# Altium schematic symbol library Devzone_SCHLib.SchLib: 1101 symbols (part 6 of 11)
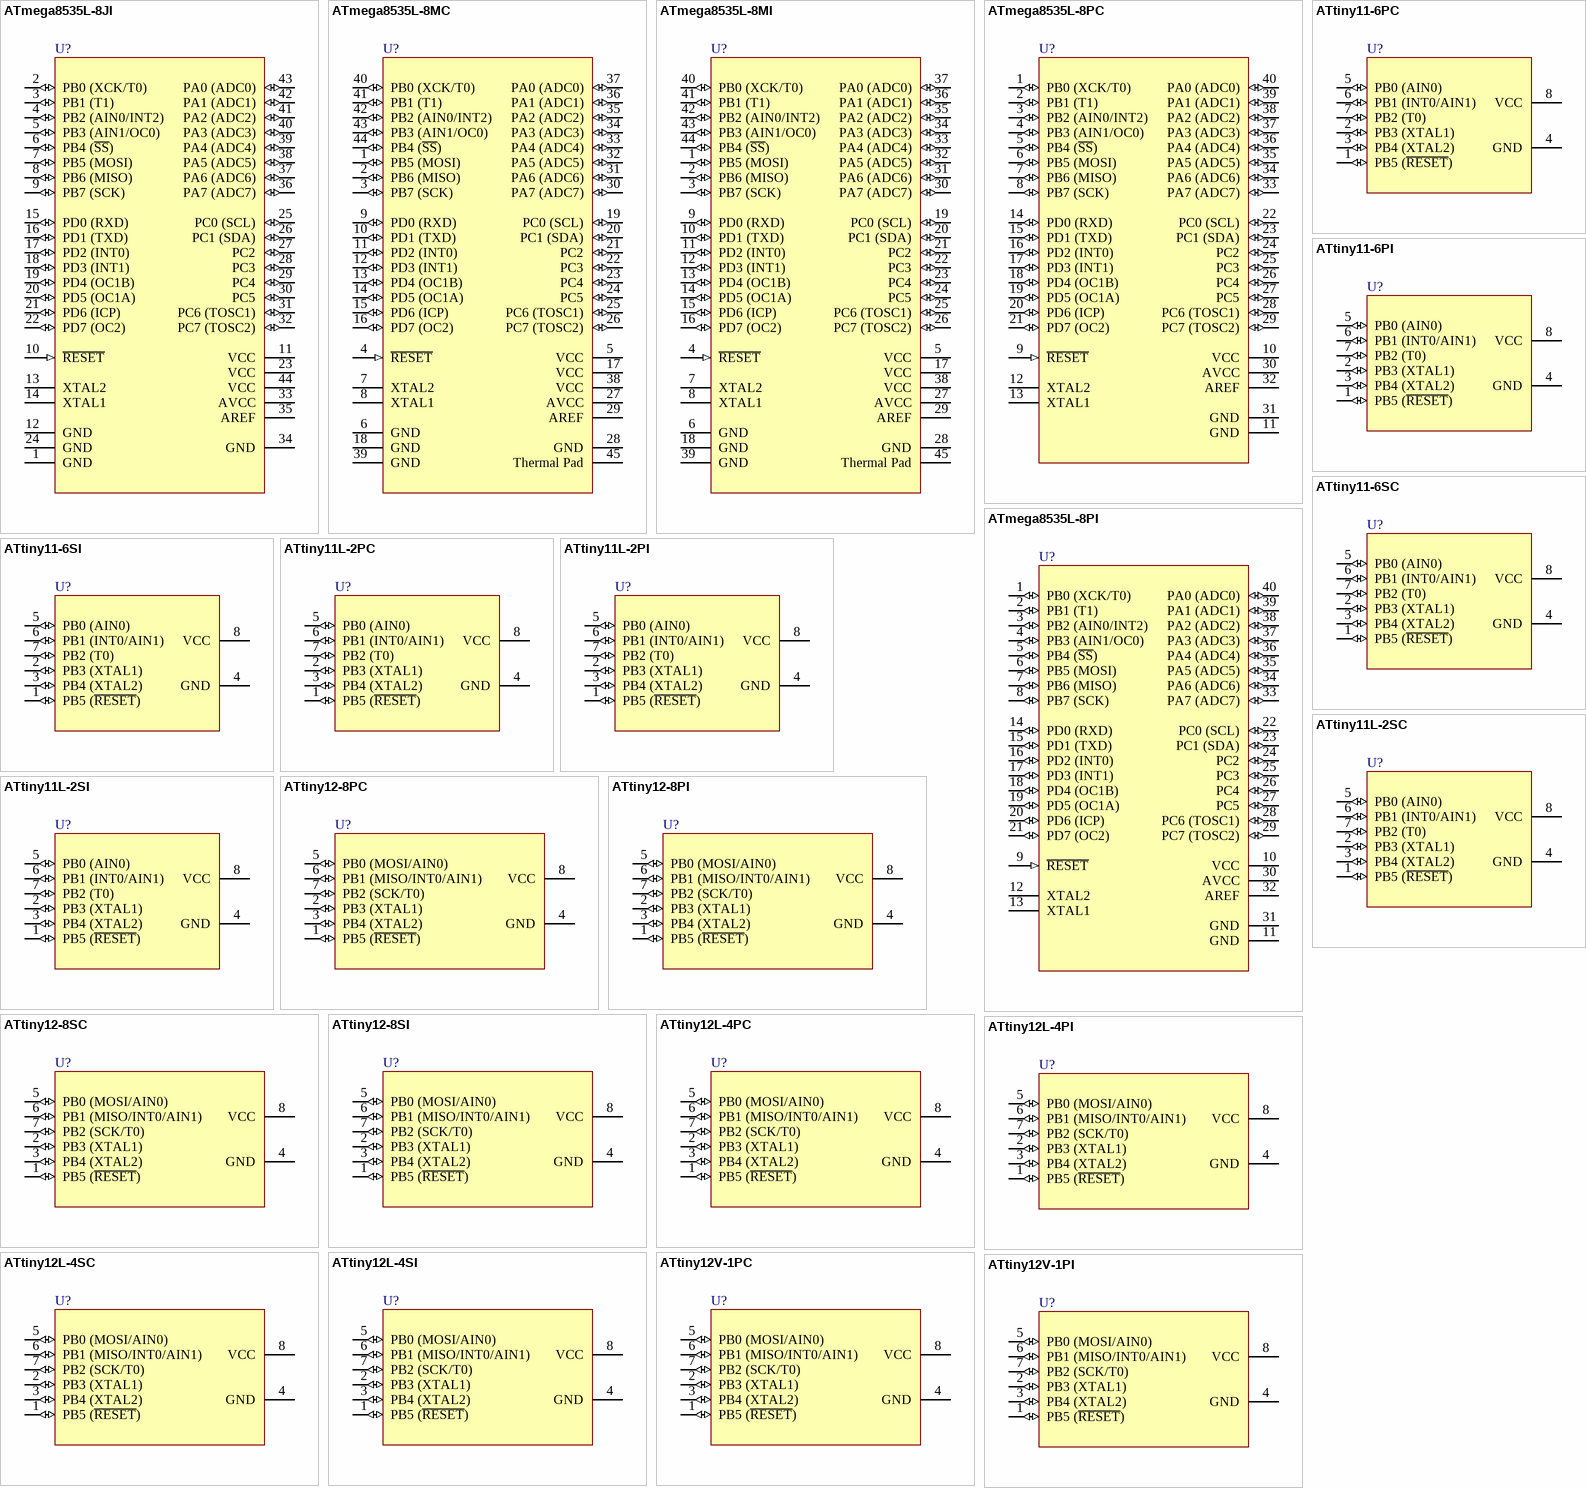
[diagram p51: symbols ATmega8535L-8JI to ATtiny12V-1PI]

## ATmega8535L-8JI
designator U?
8-Bit AVR Microcontroller with 8K Bytes of In-System Programmable Flash Memory; Published: 17-Sep-2003; LatestRevisionDate: 13-Apr-2006; LatestRevisionNote: IPC-7351 Footprint Added.; DatasheetVersion: 2502B-AVR-09/02; PackageVersion: rev.B, Oct-2001; PackageReference: 44J; Publisher: Altium Limited; PackageDescription: 44-Pin Leaded Chip Carrier 1.27 mm Pitch; Code_JEDEC: MS-018-AC; Code_IPC: PLCC-44; ComponentLink1Description: Manufacturer Link; ComponentLink1URL: http://www.atmel.com; ComponentLink2Description: Datasheet; ComponentLink2URL: http://www.atmel.com/dyn/resources/prod_documents/doc2502.pdf
footprint 44J_N (Leaded Chip Carrier, 44-Leads, Body 16.6x16.6mm, Pitch 1.27mm, IPC Medium Density)
footprint 44J_L (Leaded Chip Carrier, 44-Leads, Body 16.6x16.6mm, Pitch 1.27mm, IPC High Density)
footprint 44J_M (Leaded Chip Carrier, 44-Leads, Body 16.6x16.6mm, Pitch 1.27mm, IPC Low Density)
3D model ATMEGA8535L-44J (44-Pin Leaded Chip Carrier 1.27 mm Pitch)
pins: 1 GND (power), 2 PB0 (XCK/T0) (io), 3 PB1 (T1) (io), 4 PB2 (AIN0/INT2) (io), 5 PB3 (AIN1/OC0) (io), 6 PB4 (~{SS}) (io), 7 PB5 (MOSI) (io), 8 PB6 (MISO) (io), 9 PB7 (SCK) (io), 10 ~{RESET} (in), 11 VCC (power), 12 GND (power), 13 XTAL2, 14 XTAL1, 15 PD0 (RXD) (io), 16 PD1 (TXD) (io), 17 PD2 (INT0) (io), 18 PD3 (INT1) (io), 19 PD4 (OC1B) (io), 20 PD5 (OC1A) (io), 21 PD6 (ICP) (io), 22 PD7 (OC2) (io), 23 VCC (power), 24 GND (power), 25 PC0 (SCL) (io), 26 PC1 (SDA) (io), 27 PC2 (io), 28 PC3 (io), 29 PC4 (io), 30 PC5 (io), 31 PC6 (TOSC1) (io), 32 PC7 (TOSC2) (io), 33 AVCC (power), 34 GND (power), 35 AREF, 36 PA7 (ADC7) (io), 37 PA6 (ADC6) (io), 38 PA5 (ADC5) (io), 39 PA4 (ADC4) (io), 40 PA3 (ADC3) (io), 41 PA2 (ADC2) (io), 42 PA1 (ADC1) (io), 43 PA0 (ADC0) (io), 44 VCC (power)

## ATmega8535L-8MC
designator U?
8-Bit AVR Microcontroller with 8K Bytes of In-System Programmable Flash Memory; Published: 26-May-2004; LatestRevisionDate: 13-Apr-2006; LatestRevisionNote: IPC-7351 Footprint Added.; DatasheetVersion: 2502B-AVR-09/02; PackageVersion: revB, Aug-2001; PackageReference: 44M1; Publisher: Altium Limited; PackageDescription: 44-Pin Quad Flat No-Lead 0.5 mm Pitch; Code_JEDEC: MO-220-VKKD-1; ComponentLink1Description: Manufacturer Link; ComponentLink1URL: http://www.atmel.com; ComponentLink2Description: Datasheet; ComponentLink2URL: http://www.atmel.com/dyn/resources/prod_documents/doc2502.pdf
footprint 44M1_N (QFN, 44-Leads, Body 7x7mm, Pitch 0.5mm, IPC Medium Density)
footprint 44M1_L (QFN, 44-Leads, Body 7x7mm, Pitch 0.5mm, IPC High Density)
footprint 44M1_M (QFN, 44-Leads, Body 7x7mm, Pitch 0.5mm, IPC Low Density)
pins: 1 PB5 (MOSI) (io), 2 PB6 (MISO) (io), 3 PB7 (SCK) (io), 4 ~{RESET} (in), 5 VCC (power), 6 GND (power), 7 XTAL2, 8 XTAL1, 9 PD0 (RXD) (io), 10 PD1 (TXD) (io), 11 PD2 (INT0) (io), 12 PD3 (INT1) (io), 13 PD4 (OC1B) (io), 14 PD5 (OC1A) (io), 15 PD6 (ICP) (io), 16 PD7 (OC2) (io), 17 VCC (power), 18 GND (power), 19 PC0 (SCL) (io), 20 PC1 (SDA) (io), 21 PC2 (io), 22 PC3 (io), 23 PC4 (io), 24 PC5 (io), 25 PC6 (TOSC1) (io), 26 PC7 (TOSC2) (io), 27 AVCC (power), 28 GND (power), 29 AREF, 30 PA7 (ADC7) (io), 31 PA6 (ADC6) (io), 32 PA5 (ADC5) (io), 33 PA4 (ADC4) (io), 34 PA3 (ADC3) (io), 35 PA2 (ADC2) (io), 36 PA1 (ADC1) (io), 37 PA0 (ADC0) (io), 38 VCC (power), 39 GND (power), 40 PB0 (XCK/T0) (io), 41 PB1 (T1) (io), 42 PB2 (AIN0/INT2) (io), 43 PB3 (AIN1/OC0) (io), 44 PB4 (~{SS}) (io), 45 Thermal Pad (power)

## ATmega8535L-8MI
designator U?
8-Bit AVR Microcontroller with 8K Bytes of In-System Programmable Flash Memory; Published: 26-May-2004; LatestRevisionDate: 13-Apr-2006; LatestRevisionNote: IPC-7351 Footprint Added.; DatasheetVersion: 2502B-AVR-09/02; PackageVersion: revB, Aug-2001; PackageReference: 44M1; Publisher: Altium Limited; PackageDescription: 44-Pin Quad Flat No-Lead 0.5 mm Pitch; Code_JEDEC: MO-220-VKKD-1; ComponentLink1Description: Manufacturer Link; ComponentLink1URL: http://www.atmel.com; ComponentLink2Description: Datasheet; ComponentLink2URL: http://www.atmel.com/dyn/resources/prod_documents/doc2502.pdf
footprint 44M1_N (QFN, 44-Leads, Body 7x7mm, Pitch 0.5mm, IPC Medium Density)
footprint 44M1_L (QFN, 44-Leads, Body 7x7mm, Pitch 0.5mm, IPC High Density)
footprint 44M1_M (QFN, 44-Leads, Body 7x7mm, Pitch 0.5mm, IPC Low Density)
pins: 1 PB5 (MOSI) (io), 2 PB6 (MISO) (io), 3 PB7 (SCK) (io), 4 ~{RESET} (in), 5 VCC (power), 6 GND (power), 7 XTAL2, 8 XTAL1, 9 PD0 (RXD) (io), 10 PD1 (TXD) (io), 11 PD2 (INT0) (io), 12 PD3 (INT1) (io), 13 PD4 (OC1B) (io), 14 PD5 (OC1A) (io), 15 PD6 (ICP) (io), 16 PD7 (OC2) (io), 17 VCC (power), 18 GND (power), 19 PC0 (SCL) (io), 20 PC1 (SDA) (io), 21 PC2 (io), 22 PC3 (io), 23 PC4 (io), 24 PC5 (io), 25 PC6 (TOSC1) (io), 26 PC7 (TOSC2) (io), 27 AVCC (power), 28 GND (power), 29 AREF, 30 PA7 (ADC7) (io), 31 PA6 (ADC6) (io), 32 PA5 (ADC5) (io), 33 PA4 (ADC4) (io), 34 PA3 (ADC3) (io), 35 PA2 (ADC2) (io), 36 PA1 (ADC1) (io), 37 PA0 (ADC0) (io), 38 VCC (power), 39 GND (power), 40 PB0 (XCK/T0) (io), 41 PB1 (T1) (io), 42 PB2 (AIN0/INT2) (io), 43 PB3 (AIN1/OC0) (io), 44 PB4 (~{SS}) (io), 45 Thermal Pad (power)

## ATmega8535L-8PC
designator U?
8-Bit AVR Microcontroller with 8K Bytes of In-System Programmable Flash Memory; Published: 17-Sep-2003; LatestRevisionDate: 04-Mar-2005; LatestRevisionNote: Stylized 3D Model Added.; DatasheetVersion: 2502B-AVR-09/02; PackageVersion: Dec-1999; PackageReference: 40P6; Publisher: Altium Limited; PackageDescription: DIP; 40 Leads; Row Spacing 15.24 mm; Pitch 2.54 mm; ComponentLink1Description: Manufacturer Link; ComponentLink1URL: http://www.atmel.com; ComponentLink2Description: Datasheet; ComponentLink2URL: http://www.atmel.com/dyn/resources/prod_documents/doc2502.pdf
footprint 40P6 (DIP; 40 Leads; Row Spacing 15.24 mm; Pitch 2.54 mm)
3D model 40P6 (DIP; 40 Leads; Row Spacing 15.24 mm; Pitch 2.54 mm)
pins: 1 PB0 (XCK/T0) (io), 2 PB1 (T1) (io), 3 PB2 (AIN0/INT2) (io), 4 PB3 (AIN1/OC0) (io), 5 PB4 (~{SS}) (io), 6 PB5 (MOSI) (io), 7 PB6 (MISO) (io), 8 PB7 (SCK) (io), 9 ~{RESET} (in), 10 VCC (power), 11 GND (power), 12 XTAL2, 13 XTAL1, 14 PD0 (RXD) (io), 15 PD1 (TXD) (io), 16 PD2 (INT0) (io), 17 PD3 (INT1) (io), 18 PD4 (OC1B) (io), 19 PD5 (OC1A) (io), 20 PD6 (ICP) (io), 21 PD7 (OC2) (io), 22 PC0 (SCL) (io), 23 PC1 (SDA) (io), 24 PC2 (io), 25 PC3 (io), 26 PC4 (io), 27 PC5 (io), 28 PC6 (TOSC1) (io), 29 PC7 (TOSC2) (io), 30 AVCC (power), 31 GND (power), 32 AREF, 33 PA7 (ADC7) (io), 34 PA6 (ADC6) (io), 35 PA5 (ADC5) (io), 36 PA4 (ADC4) (io), 37 PA3 (ADC3) (io), 38 PA2 (ADC2) (io), 39 PA1 (ADC1) (io), 40 PA0 (ADC0) (io)

## ATmega8535L-8PI
designator U?
8-Bit AVR Microcontroller with 8K Bytes of In-System Programmable Flash Memory; Published: 17-Sep-2003; LatestRevisionDate: 04-Mar-2005; LatestRevisionNote: Stylized 3D Model Added.; DatasheetVersion: 2502B-AVR-09/02; PackageVersion: Dec-1999; PackageReference: 40P6; Publisher: Altium Limited; PackageDescription: DIP; 40 Leads; Row Spacing 15.24 mm; Pitch 2.54 mm; ComponentLink1Description: Manufacturer Link; ComponentLink1URL: http://www.atmel.com; ComponentLink2Description: Datasheet; ComponentLink2URL: http://www.atmel.com/dyn/resources/prod_documents/doc2502.pdf
footprint 40P6 (DIP; 40 Leads; Row Spacing 15.24 mm; Pitch 2.54 mm)
3D model 40P6 (DIP; 40 Leads; Row Spacing 15.24 mm; Pitch 2.54 mm)
pins: 1 PB0 (XCK/T0) (io), 2 PB1 (T1) (io), 3 PB2 (AIN0/INT2) (io), 4 PB3 (AIN1/OC0) (io), 5 PB4 (~{SS}) (io), 6 PB5 (MOSI) (io), 7 PB6 (MISO) (io), 8 PB7 (SCK) (io), 9 ~{RESET} (in), 10 VCC (power), 11 GND (power), 12 XTAL2, 13 XTAL1, 14 PD0 (RXD) (io), 15 PD1 (TXD) (io), 16 PD2 (INT0) (io), 17 PD3 (INT1) (io), 18 PD4 (OC1B) (io), 19 PD5 (OC1A) (io), 20 PD6 (ICP) (io), 21 PD7 (OC2) (io), 22 PC0 (SCL) (io), 23 PC1 (SDA) (io), 24 PC2 (io), 25 PC3 (io), 26 PC4 (io), 27 PC5 (io), 28 PC6 (TOSC1) (io), 29 PC7 (TOSC2) (io), 30 AVCC (power), 31 GND (power), 32 AREF, 33 PA7 (ADC7) (io), 34 PA6 (ADC6) (io), 35 PA5 (ADC5) (io), 36 PA4 (ADC4) (io), 37 PA3 (ADC3) (io), 38 PA2 (ADC2) (io), 39 PA1 (ADC1) (io), 40 PA0 (ADC0) (io)

## ATtiny11-6PC
designator U?
8-Bit AVR Microcontroller with 1K Byte of Flash Memory; Published: 17-Sep-2003; LatestRevisionDate: 04-Mar-2005; LatestRevisionNote: Stylized 3D Model Added.; DatasheetVersion: 1006C-09/01; PackageVersion: revB, Sep-2001; PackageReference: 8P3; Publisher: Altium Limited; PackageDescription: DIP; 8 Leads; Row Spacing 7.62 mm; Pitch 2.54 mm; ComponentLink1Description: Manufacturer Link; ComponentLink1URL: http://www.atmel.com; ComponentLink2Description: Datasheet; ComponentLink2URL: http://www.atmel.com/dyn/resources/prod_documents/doc1006.pdf
footprint 8P3 (DIP; 8 Leads; Row Spacing 7.62 mm; Pitch 2.54 mm)
3D model 8P3 (DIP; 8 Leads; Row Spacing 7.62 mm; Pitch 2.54 mm)
pins: 1 PB5 (~{RESET}) (io), 2 PB3 (XTAL1) (io), 3 PB4 (XTAL2) (io), 4 GND (power), 5 PB0 (AIN0) (io), 6 PB1 (INT0/AIN1) (io), 7 PB2 (T0) (io), 8 VCC (power)

## ATtiny11-6PI
designator U?
8-Bit AVR Microcontroller with 1K Byte of Flash Memory; Published: 17-Sep-2003; LatestRevisionDate: 04-Mar-2005; LatestRevisionNote: Stylized 3D Model Added.; DatasheetVersion: 1006C-09/01; PackageVersion: revB, Sep-2001; PackageReference: 8P3; Publisher: Altium Limited; PackageDescription: DIP; 8 Leads; Row Spacing 7.62 mm; Pitch 2.54 mm; ComponentLink1Description: Manufacturer Link; ComponentLink1URL: http://www.atmel.com; ComponentLink2Description: Datasheet; ComponentLink2URL: http://www.atmel.com/dyn/resources/prod_documents/doc1006.pdf
footprint 8P3 (DIP; 8 Leads; Row Spacing 7.62 mm; Pitch 2.54 mm)
3D model 8P3 (DIP; 8 Leads; Row Spacing 7.62 mm; Pitch 2.54 mm)
pins: 1 PB5 (~{RESET}) (io), 2 PB3 (XTAL1) (io), 3 PB4 (XTAL2) (io), 4 GND (power), 5 PB0 (AIN0) (io), 6 PB1 (INT0/AIN1) (io), 7 PB2 (T0) (io), 8 VCC (power)

## ATtiny11-6SC
designator U?
8-Bit AVR Microcontroller with 1K Byte of Flash Memory; Published: 17-Sep-2003; LatestRevisionDate: 13-Apr-2006; LatestRevisionNote: IPC-7351 Footprint Added.; DatasheetVersion: 1006C-09/01; PackageVersion: revB, May-2002; PackageReference: 8S2; Publisher: Altium Limited; PackageDescription: 8-Pin Small Outline Package 1.27 mm Pitch; ComponentLink1Description: Manufacturer Link; ComponentLink1URL: http://www.atmel.com; ComponentLink2Description: Datasheet; ComponentLink2URL: http://www.atmel.com/dyn/resources/prod_documents/doc1006.pdf
footprint 8S2_N (SOP, 8-Leads, Body 5.3x5.3mm, Pitch 1.27mm, IPC Medium Density)
footprint 8S2_L (SOP, 8-Leads, Body 5.3x5.3mm, Pitch 1.27mm, IPC High Density)
footprint 8S2_M (SOP, 8-Leads, Body 5.3x5.3mm, Pitch 1.27mm, IPC Low Density)
3D model 8S2 (8-Pin Small Outline Package 1.27 mm Pitch)
pins: 1 PB5 (~{RESET}) (io), 2 PB3 (XTAL1) (io), 3 PB4 (XTAL2) (io), 4 GND (power), 5 PB0 (AIN0) (io), 6 PB1 (INT0/AIN1) (io), 7 PB2 (T0) (io), 8 VCC (power)

## ATtiny11-6SI
designator U?
8-Bit AVR Microcontroller with 1K Byte of Flash Memory; Published: 17-Sep-2003; LatestRevisionDate: 13-Apr-2006; LatestRevisionNote: IPC-7351 Footprint Added.; DatasheetVersion: 1006C-09/01; PackageVersion: revB, May-2002; PackageReference: 8S2; Publisher: Altium Limited; PackageDescription: 8-Pin Small Outline Package 1.27 mm Pitch; ComponentLink1Description: Manufacturer Link; ComponentLink1URL: http://www.atmel.com; ComponentLink2Description: Datasheet; ComponentLink2URL: http://www.atmel.com/dyn/resources/prod_documents/doc1006.pdf
footprint 8S2_N (SOP, 8-Leads, Body 5.3x5.3mm, Pitch 1.27mm, IPC Medium Density)
footprint 8S2_L (SOP, 8-Leads, Body 5.3x5.3mm, Pitch 1.27mm, IPC High Density)
footprint 8S2_M (SOP, 8-Leads, Body 5.3x5.3mm, Pitch 1.27mm, IPC Low Density)
3D model 8S2 (8-Pin Small Outline Package 1.27 mm Pitch)
pins: 1 PB5 (~{RESET}) (io), 2 PB3 (XTAL1) (io), 3 PB4 (XTAL2) (io), 4 GND (power), 5 PB0 (AIN0) (io), 6 PB1 (INT0/AIN1) (io), 7 PB2 (T0) (io), 8 VCC (power)

## ATtiny11L-2PC
designator U?
8-Bit AVR Microcontroller with 1K Byte of Flash Memory; Published: 17-Sep-2003; LatestRevisionDate: 04-Mar-2005; LatestRevisionNote: Stylized 3D Model Added.; DatasheetVersion: 1006C-09/01; PackageVersion: revB, Sep-2001; PackageReference: 8P3; Publisher: Altium Limited; PackageDescription: DIP; 8 Leads; Row Spacing 7.62 mm; Pitch 2.54 mm; ComponentLink1Description: Manufacturer Link; ComponentLink1URL: http://www.atmel.com; ComponentLink2Description: Datasheet; ComponentLink2URL: http://www.atmel.com/dyn/resources/prod_documents/doc1006.pdf
footprint 8P3 (DIP; 8 Leads; Row Spacing 7.62 mm; Pitch 2.54 mm)
3D model 8P3 (DIP; 8 Leads; Row Spacing 7.62 mm; Pitch 2.54 mm)
pins: 1 PB5 (~{RESET}) (io), 2 PB3 (XTAL1) (io), 3 PB4 (XTAL2) (io), 4 GND (power), 5 PB0 (AIN0) (io), 6 PB1 (INT0/AIN1) (io), 7 PB2 (T0) (io), 8 VCC (power)

## ATtiny11L-2PI
designator U?
8-Bit AVR Microcontroller with 1K Byte of Flash Memory; Published: 17-Sep-2003; LatestRevisionDate: 04-Mar-2005; LatestRevisionNote: Stylized 3D Model Added.; DatasheetVersion: 1006C-09/01; PackageVersion: revB, Sep-2001; PackageReference: 8P3; Publisher: Altium Limited; PackageDescription: DIP; 8 Leads; Row Spacing 7.62 mm; Pitch 2.54 mm; ComponentLink1Description: Manufacturer Link; ComponentLink1URL: http://www.atmel.com; ComponentLink2Description: Datasheet; ComponentLink2URL: http://www.atmel.com/dyn/resources/prod_documents/doc1006.pdf
footprint 8P3 (DIP; 8 Leads; Row Spacing 7.62 mm; Pitch 2.54 mm)
3D model 8P3 (DIP; 8 Leads; Row Spacing 7.62 mm; Pitch 2.54 mm)
pins: 1 PB5 (~{RESET}) (io), 2 PB3 (XTAL1) (io), 3 PB4 (XTAL2) (io), 4 GND (power), 5 PB0 (AIN0) (io), 6 PB1 (INT0/AIN1) (io), 7 PB2 (T0) (io), 8 VCC (power)

## ATtiny11L-2SC
designator U?
8-Bit AVR Microcontroller with 1K Byte of Flash Memory; Published: 17-Sep-2003; LatestRevisionDate: 13-Apr-2006; LatestRevisionNote: IPC-7351 Footprint Added.; DatasheetVersion: 1006C-09/01; PackageVersion: revB, May-2002; PackageReference: 8S2; Publisher: Altium Limited; PackageDescription: 8-Pin Small Outline Package 1.27 mm Pitch; ComponentLink1Description: Manufacturer Link; ComponentLink1URL: http://www.atmel.com; ComponentLink2Description: Datasheet; ComponentLink2URL: http://www.atmel.com/dyn/resources/prod_documents/doc1006.pdf
footprint 8S2_N (SOP, 8-Leads, Body 5.3x5.3mm, Pitch 1.27mm, IPC Medium Density)
footprint 8S2_L (SOP, 8-Leads, Body 5.3x5.3mm, Pitch 1.27mm, IPC High Density)
footprint 8S2_M (SOP, 8-Leads, Body 5.3x5.3mm, Pitch 1.27mm, IPC Low Density)
3D model 8S2 (8-Pin Small Outline Package 1.27 mm Pitch)
pins: 1 PB5 (~{RESET}) (io), 2 PB3 (XTAL1) (io), 3 PB4 (XTAL2) (io), 4 GND (power), 5 PB0 (AIN0) (io), 6 PB1 (INT0/AIN1) (io), 7 PB2 (T0) (io), 8 VCC (power)

## ATtiny11L-2SI
designator U?
8-Bit AVR Microcontroller with 1K Byte of Flash Memory; Published: 17-Sep-2003; LatestRevisionDate: 13-Apr-2006; LatestRevisionNote: IPC-7351 Footprint Added.; DatasheetVersion: 1006C-09/01; PackageVersion: revB, May-2002; PackageReference: 8S2; Publisher: Altium Limited; PackageDescription: 8-Pin Small Outline Package 1.27 mm Pitch; ComponentLink1Description: Manufacturer Link; ComponentLink1URL: http://www.atmel.com; ComponentLink2Description: Datasheet; ComponentLink2URL: http://www.atmel.com/dyn/resources/prod_documents/doc1006.pdf
footprint 8S2_N (SOP, 8-Leads, Body 5.3x5.3mm, Pitch 1.27mm, IPC Medium Density)
footprint 8S2_L (SOP, 8-Leads, Body 5.3x5.3mm, Pitch 1.27mm, IPC High Density)
footprint 8S2_M (SOP, 8-Leads, Body 5.3x5.3mm, Pitch 1.27mm, IPC Low Density)
3D model 8S2 (8-Pin Small Outline Package 1.27 mm Pitch)
pins: 1 PB5 (~{RESET}) (io), 2 PB3 (XTAL1) (io), 3 PB4 (XTAL2) (io), 4 GND (power), 5 PB0 (AIN0) (io), 6 PB1 (INT0/AIN1) (io), 7 PB2 (T0) (io), 8 VCC (power)

## ATtiny12-8PC
designator U?
8-Bit AVR Microcontroller with 1K Byte of Flash Memory; Published: 17-Sep-2003; LatestRevisionDate: 04-Mar-2005; LatestRevisionNote: Stylized 3D Model Added.; DatasheetVersion: 1006C-09/01; PackageVersion: revB, Sep-2001; PackageReference: 8P3; Publisher: Altium Limited; PackageDescription: DIP; 8 Leads; Row Spacing 7.62 mm; Pitch 2.54 mm; ComponentLink1Description: Manufacturer Link; ComponentLink1URL: http://www.atmel.com; ComponentLink2Description: Datasheet; ComponentLink2URL: http://www.atmel.com/dyn/resources/prod_documents/doc1006.pdf
footprint 8P3 (DIP; 8 Leads; Row Spacing 7.62 mm; Pitch 2.54 mm)
3D model 8P3 (DIP; 8 Leads; Row Spacing 7.62 mm; Pitch 2.54 mm)
pins: 1 PB5 (~{RESET}) (io), 2 PB3 (XTAL1) (io), 3 PB4 (XTAL2) (io), 4 GND (power), 5 PB0 (MOSI/AIN0) (io), 6 PB1 (MISO/INT0/AIN1) (io), 7 PB2 (SCK/T0) (io), 8 VCC (power)

## ATtiny12-8PI
designator U?
8-Bit AVR Microcontroller with 1K Byte of Flash Memory; Published: 17-Sep-2003; LatestRevisionDate: 04-Mar-2005; LatestRevisionNote: Stylized 3D Model Added.; DatasheetVersion: 1006C-09/01; PackageVersion: revB, Sep-2001; PackageReference: 8P3; Publisher: Altium Limited; PackageDescription: DIP; 8 Leads; Row Spacing 7.62 mm; Pitch 2.54 mm; ComponentLink1Description: Manufacturer Link; ComponentLink1URL: http://www.atmel.com; ComponentLink2Description: Datasheet; ComponentLink2URL: http://www.atmel.com/dyn/resources/prod_documents/doc1006.pdf
footprint 8P3 (DIP; 8 Leads; Row Spacing 7.62 mm; Pitch 2.54 mm)
3D model 8P3 (DIP; 8 Leads; Row Spacing 7.62 mm; Pitch 2.54 mm)
pins: 1 PB5 (~{RESET}) (io), 2 PB3 (XTAL1) (io), 3 PB4 (XTAL2) (io), 4 GND (power), 5 PB0 (MOSI/AIN0) (io), 6 PB1 (MISO/INT0/AIN1) (io), 7 PB2 (SCK/T0) (io), 8 VCC (power)

## ATtiny12-8SC
designator U?
8-Bit AVR Microcontroller with 1K Byte of Flash Memory; Published: 17-Sep-2003; LatestRevisionDate: 13-Apr-2006; LatestRevisionNote: IPC-7351 Footprint Added.; DatasheetVersion: 1006C-09/01; PackageVersion: revB, May-2002; PackageReference: 8S2; Publisher: Altium Limited; PackageDescription: 8-Pin Small Outline Package 1.27 mm Pitch; ComponentLink1Description: Manufacturer Link; ComponentLink1URL: http://www.atmel.com; ComponentLink2Description: Datasheet; ComponentLink2URL: http://www.atmel.com/dyn/resources/prod_documents/doc1006.pdf
footprint 8S2_N (SOP, 8-Leads, Body 5.3x5.3mm, Pitch 1.27mm, IPC Medium Density)
footprint 8S2_L (SOP, 8-Leads, Body 5.3x5.3mm, Pitch 1.27mm, IPC High Density)
footprint 8S2_M (SOP, 8-Leads, Body 5.3x5.3mm, Pitch 1.27mm, IPC Low Density)
3D model 8S2 (8-Pin Small Outline Package 1.27 mm Pitch)
pins: 1 PB5 (~{RESET}) (io), 2 PB3 (XTAL1) (io), 3 PB4 (XTAL2) (io), 4 GND (power), 5 PB0 (MOSI/AIN0) (io), 6 PB1 (MISO/INT0/AIN1) (io), 7 PB2 (SCK/T0) (io), 8 VCC (power)

## ATtiny12-8SI
designator U?
8-Bit AVR Microcontroller with 1K Byte of Flash Memory; Published: 17-Sep-2003; LatestRevisionDate: 13-Apr-2006; LatestRevisionNote: IPC-7351 Footprint Added.; DatasheetVersion: 1006C-09/01; PackageVersion: revB, May-2002; PackageReference: 8S2; Publisher: Altium Limited; PackageDescription: 8-Pin Small Outline Package 1.27 mm Pitch; ComponentLink1Description: Manufacturer Link; ComponentLink1URL: http://www.atmel.com; ComponentLink2Description: Datasheet; ComponentLink2URL: http://www.atmel.com/dyn/resources/prod_documents/doc1006.pdf
footprint 8S2_N (SOP, 8-Leads, Body 5.3x5.3mm, Pitch 1.27mm, IPC Medium Density)
footprint 8S2_L (SOP, 8-Leads, Body 5.3x5.3mm, Pitch 1.27mm, IPC High Density)
footprint 8S2_M (SOP, 8-Leads, Body 5.3x5.3mm, Pitch 1.27mm, IPC Low Density)
3D model 8S2 (8-Pin Small Outline Package 1.27 mm Pitch)
pins: 1 PB5 (~{RESET}) (io), 2 PB3 (XTAL1) (io), 3 PB4 (XTAL2) (io), 4 GND (power), 5 PB0 (MOSI/AIN0) (io), 6 PB1 (MISO/INT0/AIN1) (io), 7 PB2 (SCK/T0) (io), 8 VCC (power)

## ATtiny12L-4PC
designator U?
8-Bit AVR Microcontroller with 1K Byte of Flash Memory; Published: 17-Sep-2003; LatestRevisionDate: 04-Mar-2005; LatestRevisionNote: Stylized 3D Model Added.; DatasheetVersion: 1006C-09/01; PackageVersion: revB, Sep-2001; PackageReference: 8P3; Publisher: Altium Limited; PackageDescription: DIP; 8 Leads; Row Spacing 7.62 mm; Pitch 2.54 mm; ComponentLink1Description: Manufacturer Link; ComponentLink1URL: http://www.atmel.com; ComponentLink2Description: Datasheet; ComponentLink2URL: http://www.atmel.com/dyn/resources/prod_documents/doc1006.pdf
footprint 8P3 (DIP; 8 Leads; Row Spacing 7.62 mm; Pitch 2.54 mm)
3D model 8P3 (DIP; 8 Leads; Row Spacing 7.62 mm; Pitch 2.54 mm)
pins: 1 PB5 (~{RESET}) (io), 2 PB3 (XTAL1) (io), 3 PB4 (XTAL2) (io), 4 GND (power), 5 PB0 (MOSI/AIN0) (io), 6 PB1 (MISO/INT0/AIN1) (io), 7 PB2 (SCK/T0) (io), 8 VCC (power)

## ATtiny12L-4PI
designator U?
8-Bit AVR Microcontroller with 1K Byte of Flash Memory; Published: 17-Sep-2003; LatestRevisionDate: 04-Mar-2005; LatestRevisionNote: Stylized 3D Model Added.; DatasheetVersion: 1006C-09/01; PackageVersion: revB, Sep-2001; PackageReference: 8P3; Publisher: Altium Limited; PackageDescription: DIP; 8 Leads; Row Spacing 7.62 mm; Pitch 2.54 mm; ComponentLink1Description: Manufacturer Link; ComponentLink1URL: http://www.atmel.com; ComponentLink2Description: Datasheet; ComponentLink2URL: http://www.atmel.com/dyn/resources/prod_documents/doc1006.pdf
footprint 8P3 (DIP; 8 Leads; Row Spacing 7.62 mm; Pitch 2.54 mm)
3D model 8P3 (DIP; 8 Leads; Row Spacing 7.62 mm; Pitch 2.54 mm)
pins: 1 PB5 (~{RESET}) (io), 2 PB3 (XTAL1) (io), 3 PB4 (XTAL2) (io), 4 GND (power), 5 PB0 (MOSI/AIN0) (io), 6 PB1 (MISO/INT0/AIN1) (io), 7 PB2 (SCK/T0) (io), 8 VCC (power)

## ATtiny12L-4SC
designator U?
8-Bit AVR Microcontroller with 1K Byte of Flash Memory; Published: 17-Sep-2003; LatestRevisionDate: 13-Apr-2006; LatestRevisionNote: IPC-7351 Footprint Added.; DatasheetVersion: 1006C-09/01; PackageVersion: revB, May-2002; PackageReference: 8S2; Publisher: Altium Limited; PackageDescription: 8-Pin Small Outline Package 1.27 mm Pitch; ComponentLink1Description: Manufacturer Link; ComponentLink1URL: http://www.atmel.com; ComponentLink2Description: Datasheet; ComponentLink2URL: http://www.atmel.com/dyn/resources/prod_documents/doc1006.pdf
footprint 8S2_N (SOP, 8-Leads, Body 5.3x5.3mm, Pitch 1.27mm, IPC Medium Density)
footprint 8S2_L (SOP, 8-Leads, Body 5.3x5.3mm, Pitch 1.27mm, IPC High Density)
footprint 8S2_M (SOP, 8-Leads, Body 5.3x5.3mm, Pitch 1.27mm, IPC Low Density)
3D model 8S2 (8-Pin Small Outline Package 1.27 mm Pitch)
pins: 1 PB5 (~{RESET}) (io), 2 PB3 (XTAL1) (io), 3 PB4 (XTAL2) (io), 4 GND (power), 5 PB0 (MOSI/AIN0) (io), 6 PB1 (MISO/INT0/AIN1) (io), 7 PB2 (SCK/T0) (io), 8 VCC (power)

## ATtiny12L-4SI
designator U?
8-Bit AVR Microcontroller with 1K Byte of Flash Memory; Published: 17-Sep-2003; LatestRevisionDate: 13-Apr-2006; LatestRevisionNote: IPC-7351 Footprint Added.; DatasheetVersion: 1006C-09/01; PackageVersion: revB, May-2002; PackageReference: 8S2; Publisher: Altium Limited; PackageDescription: 8-Pin Small Outline Package 1.27 mm Pitch; ComponentLink1Description: Manufacturer Link; ComponentLink1URL: http://www.atmel.com; ComponentLink2Description: Datasheet; ComponentLink2URL: http://www.atmel.com/dyn/resources/prod_documents/doc1006.pdf
footprint 8S2_N (SOP, 8-Leads, Body 5.3x5.3mm, Pitch 1.27mm, IPC Medium Density)
footprint 8S2_L (SOP, 8-Leads, Body 5.3x5.3mm, Pitch 1.27mm, IPC High Density)
footprint 8S2_M (SOP, 8-Leads, Body 5.3x5.3mm, Pitch 1.27mm, IPC Low Density)
3D model 8S2 (8-Pin Small Outline Package 1.27 mm Pitch)
pins: 1 PB5 (~{RESET}) (io), 2 PB3 (XTAL1) (io), 3 PB4 (XTAL2) (io), 4 GND (power), 5 PB0 (MOSI/AIN0) (io), 6 PB1 (MISO/INT0/AIN1) (io), 7 PB2 (SCK/T0) (io), 8 VCC (power)

## ATtiny12V-1PC
designator U?
8-Bit AVR Microcontroller with 1K Byte of Flash Memory; Published: 17-Sep-2003; LatestRevisionDate: 04-Mar-2005; LatestRevisionNote: Stylized 3D Model Added.; DatasheetVersion: 1006C-09/01; PackageVersion: revB, Sep-2001; PackageReference: 8P3; Publisher: Altium Limited; PackageDescription: DIP; 8 Leads; Row Spacing 7.62 mm; Pitch 2.54 mm; ComponentLink1Description: Manufacturer Link; ComponentLink1URL: http://www.atmel.com; ComponentLink2Description: Datasheet; ComponentLink2URL: http://www.atmel.com/dyn/resources/prod_documents/doc1006.pdf
footprint 8P3 (DIP; 8 Leads; Row Spacing 7.62 mm; Pitch 2.54 mm)
3D model 8P3 (DIP; 8 Leads; Row Spacing 7.62 mm; Pitch 2.54 mm)
pins: 1 PB5 (~{RESET}) (io), 2 PB3 (XTAL1) (io), 3 PB4 (XTAL2) (io), 4 GND (power), 5 PB0 (MOSI/AIN0) (io), 6 PB1 (MISO/INT0/AIN1) (io), 7 PB2 (SCK/T0) (io), 8 VCC (power)

## ATtiny12V-1PI
designator U?
8-Bit AVR Microcontroller with 1K Byte of Flash Memory; Published: 17-Sep-2003; LatestRevisionDate: 04-Mar-2005; LatestRevisionNote: Stylized 3D Model Added.; DatasheetVersion: 1006C-09/01; PackageVersion: revB, Sep-2001; PackageReference: 8P3; Publisher: Altium Limited; PackageDescription: DIP; 8 Leads; Row Spacing 7.62 mm; Pitch 2.54 mm; ComponentLink1Description: Manufacturer Link; ComponentLink1URL: http://www.atmel.com; ComponentLink2Description: Datasheet; ComponentLink2URL: http://www.atmel.com/dyn/resources/prod_documents/doc1006.pdf
footprint 8P3 (DIP; 8 Leads; Row Spacing 7.62 mm; Pitch 2.54 mm)
3D model 8P3 (DIP; 8 Leads; Row Spacing 7.62 mm; Pitch 2.54 mm)
pins: 1 PB5 (~{RESET}) (io), 2 PB3 (XTAL1) (io), 3 PB4 (XTAL2) (io), 4 GND (power), 5 PB0 (MOSI/AIN0) (io), 6 PB1 (MISO/INT0/AIN1) (io), 7 PB2 (SCK/T0) (io), 8 VCC (power)

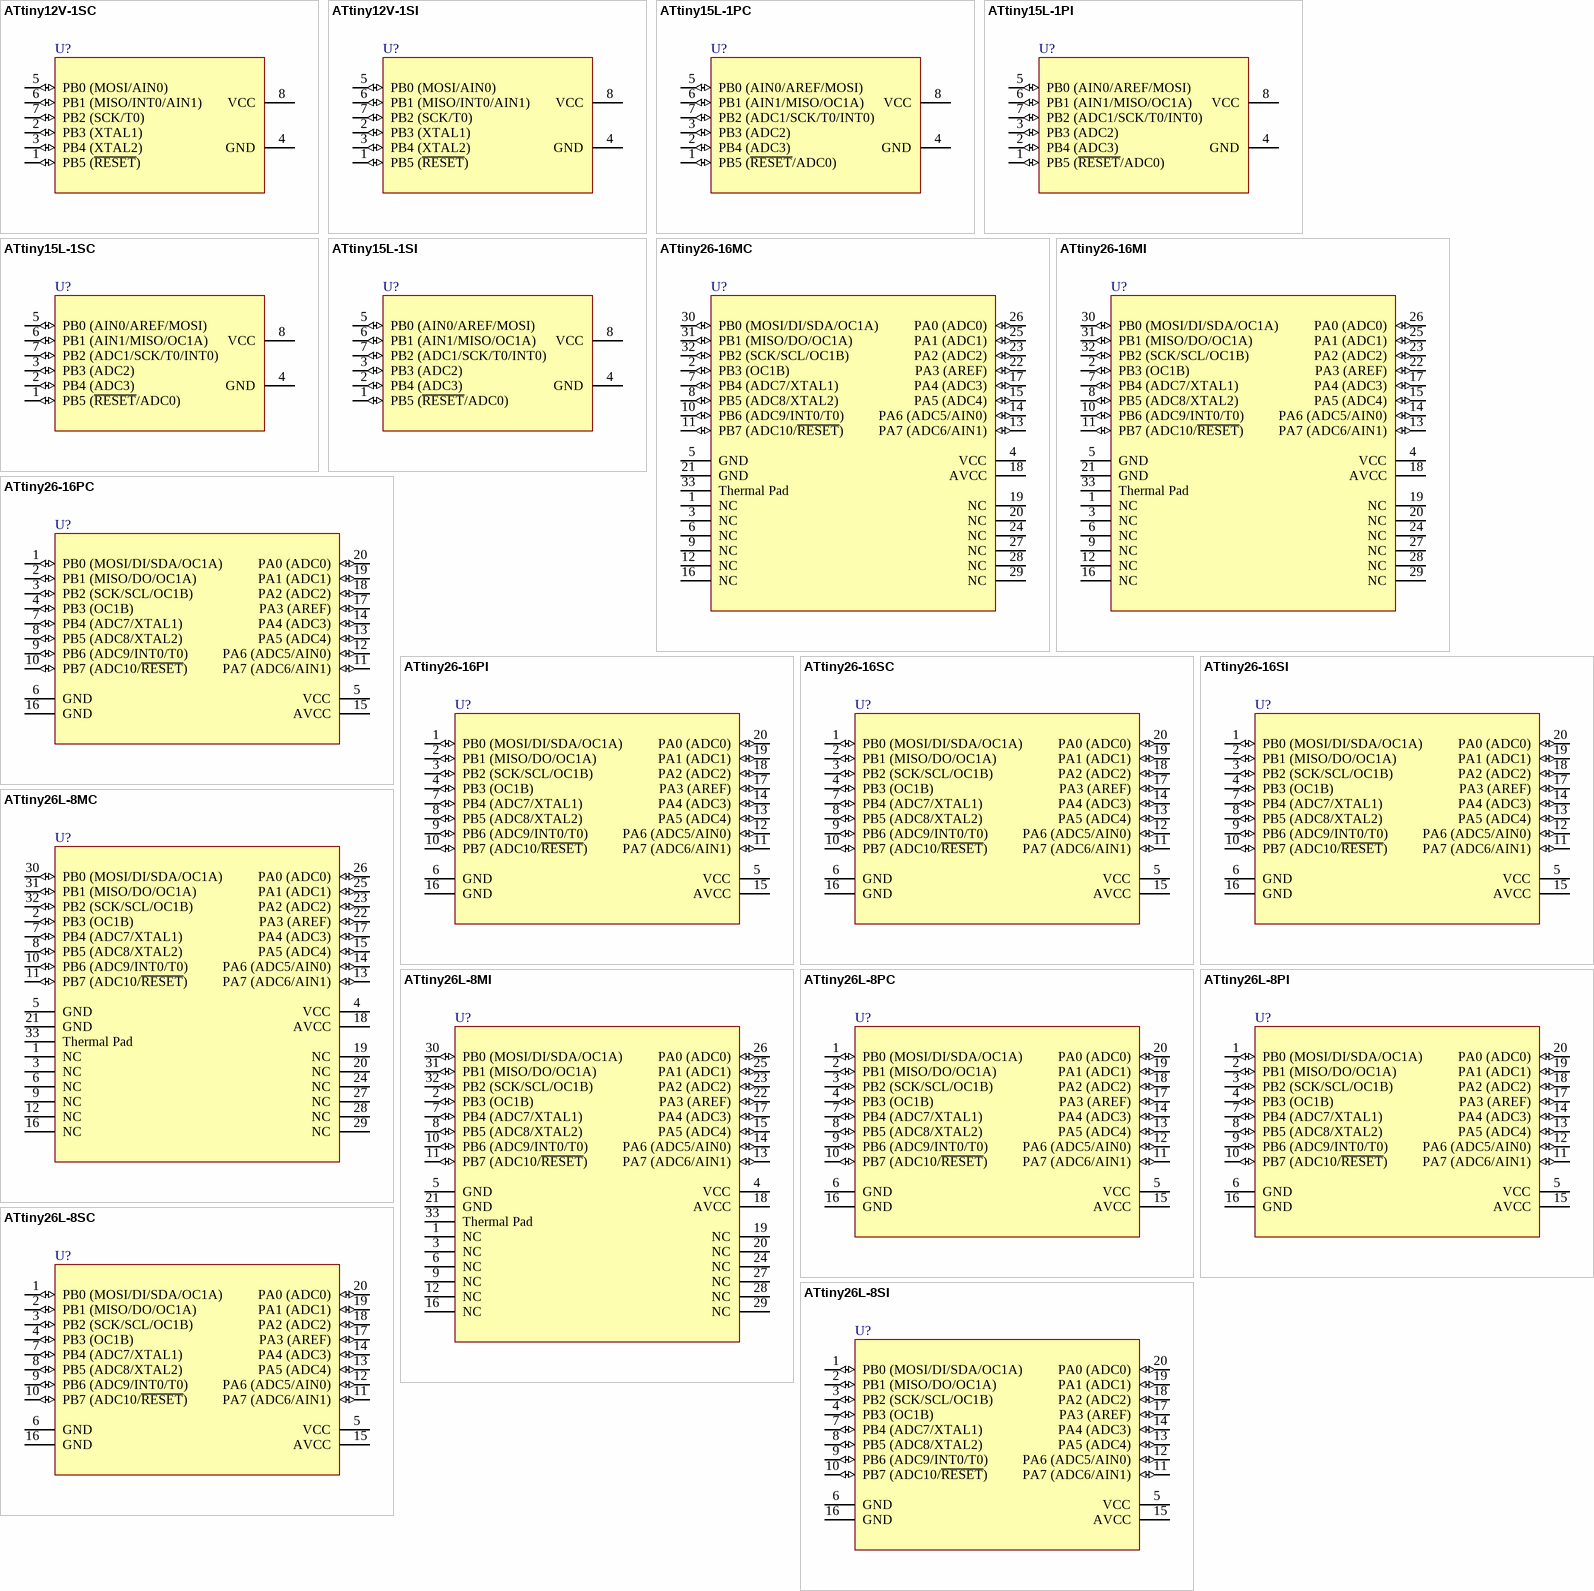
[diagram p19: symbols ATtiny12V-1SC to ATtiny26L-8SI]

## ATtiny12V-1SC
designator U?
8-Bit AVR Microcontroller with 1K Byte of Flash Memory; Published: 17-Sep-2003; LatestRevisionDate: 13-Apr-2006; LatestRevisionNote: IPC-7351 Footprint Added.; DatasheetVersion: 1006C-09/01; PackageVersion: revB, May-2002; PackageReference: 8S2; Publisher: Altium Limited; PackageDescription: 8-Pin Small Outline Package 1.27 mm Pitch; ComponentLink1Description: Manufacturer Link; ComponentLink1URL: http://www.atmel.com; ComponentLink2Description: Datasheet; ComponentLink2URL: http://www.atmel.com/dyn/resources/prod_documents/doc1006.pdf
footprint 8S2_N (SOP, 8-Leads, Body 5.3x5.3mm, Pitch 1.27mm, IPC Medium Density)
footprint 8S2_L (SOP, 8-Leads, Body 5.3x5.3mm, Pitch 1.27mm, IPC High Density)
footprint 8S2_M (SOP, 8-Leads, Body 5.3x5.3mm, Pitch 1.27mm, IPC Low Density)
3D model 8S2 (8-Pin Small Outline Package 1.27 mm Pitch)
pins: 1 PB5 (~{RESET}) (io), 2 PB3 (XTAL1) (io), 3 PB4 (XTAL2) (io), 4 GND (power), 5 PB0 (MOSI/AIN0) (io), 6 PB1 (MISO/INT0/AIN1) (io), 7 PB2 (SCK/T0) (io), 8 VCC (power)

## ATtiny12V-1SI
designator U?
8-Bit AVR Microcontroller with 1K Byte of Flash Memory; Published: 17-Sep-2003; LatestRevisionDate: 13-Apr-2006; LatestRevisionNote: IPC-7351 Footprint Added.; DatasheetVersion: 1006C-09/01; PackageVersion: revB, May-2002; PackageReference: 8S2; Publisher: Altium Limited; PackageDescription: 8-Pin Small Outline Package 1.27 mm Pitch; ComponentLink1Description: Manufacturer Link; ComponentLink1URL: http://www.atmel.com; ComponentLink2Description: Datasheet; ComponentLink2URL: http://www.atmel.com/dyn/resources/prod_documents/doc1006.pdf
footprint 8S2_N (SOP, 8-Leads, Body 5.3x5.3mm, Pitch 1.27mm, IPC Medium Density)
footprint 8S2_L (SOP, 8-Leads, Body 5.3x5.3mm, Pitch 1.27mm, IPC High Density)
footprint 8S2_M (SOP, 8-Leads, Body 5.3x5.3mm, Pitch 1.27mm, IPC Low Density)
3D model 8S2 (8-Pin Small Outline Package 1.27 mm Pitch)
pins: 1 PB5 (~{RESET}) (io), 2 PB3 (XTAL1) (io), 3 PB4 (XTAL2) (io), 4 GND (power), 5 PB0 (MOSI/AIN0) (io), 6 PB1 (MISO/INT0/AIN1) (io), 7 PB2 (SCK/T0) (io), 8 VCC (power)

## ATtiny15L-1PC
designator U?
8-Bit AVR Microcontroller with 1K Byte of Flash Memory; Published: 17-Sep-2003; LatestRevisionDate: 04-Mar-2005; LatestRevisionNote: Stylized 3D Model Added.; DatasheetVersion: 1187E-AVR-06/02; PackageVersion: revB, Sep-2001; PackageReference: 8P3; Publisher: Altium Limited; PackageDescription: DIP; 8 Leads; Row Spacing 7.62 mm; Pitch 2.54 mm; ComponentLink1Description: Manufacturer Link; ComponentLink1URL: http://www.atmel.com; ComponentLink2Description: Datasheet; ComponentLink2URL: http://www.atmel.com/dyn/resources/prod_documents/doc1187.pdf
footprint 8P3 (DIP; 8 Leads; Row Spacing 7.62 mm; Pitch 2.54 mm)
3D model 8P3 (DIP; 8 Leads; Row Spacing 7.62 mm; Pitch 2.54 mm)
pins: 1 PB5 (~{RESET}/ADC0) (io), 2 PB4 (ADC3) (io), 3 PB3 (ADC2) (io), 4 GND (power), 5 PB0 (AIN0/AREF/MOSI) (io), 6 PB1 (AIN1/MISO/OC1A) (io), 7 PB2 (ADC1/SCK/T0/INT0) (io), 8 VCC (power)

## ATtiny15L-1PI
designator U?
8-Bit AVR Microcontroller with 1K Byte of Flash Memory; Published: 17-Sep-2003; LatestRevisionDate: 04-Mar-2005; LatestRevisionNote: Stylized 3D Model Added.; DatasheetVersion: 1187E-AVR-06/02; PackageVersion: revB, Sep-2001; PackageReference: 8P3; Publisher: Altium Limited; PackageDescription: DIP; 8 Leads; Row Spacing 7.62 mm; Pitch 2.54 mm; ComponentLink1Description: Manufacturer Link; ComponentLink1URL: http://www.atmel.com; ComponentLink2Description: Datasheet; ComponentLink2URL: http://www.atmel.com/dyn/resources/prod_documents/doc1187.pdf
footprint 8P3 (DIP; 8 Leads; Row Spacing 7.62 mm; Pitch 2.54 mm)
3D model 8P3 (DIP; 8 Leads; Row Spacing 7.62 mm; Pitch 2.54 mm)
pins: 1 PB5 (~{RESET}/ADC0) (io), 2 PB4 (ADC3) (io), 3 PB3 (ADC2) (io), 4 GND (power), 5 PB0 (AIN0/AREF/MOSI) (io), 6 PB1 (AIN1/MISO/OC1A) (io), 7 PB2 (ADC1/SCK/T0/INT0) (io), 8 VCC (power)

## ATtiny15L-1SC
designator U?
8-Bit AVR Microcontroller with 1K Byte of Flash Memory; Published: 17-Sep-2003; LatestRevisionDate: 13-Apr-2006; LatestRevisionNote: IPC-7351 Footprint Added.; DatasheetVersion: 1187E-AVR-06/02; PackageVersion: revB, May-2002; PackageReference: 8S2; Publisher: Altium Limited; PackageDescription: 8-Pin Small Outline Package 1.27 mm Pitch; ComponentLink1Description: Manufacturer Link; ComponentLink1URL: http://www.atmel.com; ComponentLink2Description: Datasheet; ComponentLink2URL: http://www.atmel.com/dyn/resources/prod_documents/doc1187.pdf
footprint 8S2_N (SOP, 8-Leads, Body 5.3x5.3mm, Pitch 1.27mm, IPC Medium Density)
footprint 8S2_L (SOP, 8-Leads, Body 5.3x5.3mm, Pitch 1.27mm, IPC High Density)
footprint 8S2_M (SOP, 8-Leads, Body 5.3x5.3mm, Pitch 1.27mm, IPC Low Density)
3D model 8S2 (8-Pin Small Outline Package 1.27 mm Pitch)
pins: 1 PB5 (~{RESET}/ADC0) (io), 2 PB4 (ADC3) (io), 3 PB3 (ADC2) (io), 4 GND (power), 5 PB0 (AIN0/AREF/MOSI) (io), 6 PB1 (AIN1/MISO/OC1A) (io), 7 PB2 (ADC1/SCK/T0/INT0) (io), 8 VCC (power)

## ATtiny15L-1SI
designator U?
8-Bit AVR Microcontroller with 1K Byte of Flash Memory; Published: 17-Sep-2003; LatestRevisionDate: 13-Apr-2006; LatestRevisionNote: IPC-7351 Footprint Added.; DatasheetVersion: 1187E-AVR-06/02; PackageVersion: revB, May-2002; PackageReference: 8S2; Publisher: Altium Limited; PackageDescription: 8-Pin Small Outline Package 1.27 mm Pitch; ComponentLink1Description: Manufacturer Link; ComponentLink1URL: http://www.atmel.com; ComponentLink2Description: Datasheet; ComponentLink2URL: http://www.atmel.com/dyn/resources/prod_documents/doc1187.pdf
footprint 8S2_N (SOP, 8-Leads, Body 5.3x5.3mm, Pitch 1.27mm, IPC Medium Density)
footprint 8S2_L (SOP, 8-Leads, Body 5.3x5.3mm, Pitch 1.27mm, IPC High Density)
footprint 8S2_M (SOP, 8-Leads, Body 5.3x5.3mm, Pitch 1.27mm, IPC Low Density)
3D model 8S2 (8-Pin Small Outline Package 1.27 mm Pitch)
pins: 1 PB5 (~{RESET}/ADC0) (io), 2 PB4 (ADC3) (io), 3 PB3 (ADC2) (io), 4 GND (power), 5 PB0 (AIN0/AREF/MOSI) (io), 6 PB1 (AIN1/MISO/OC1A) (io), 7 PB2 (ADC1/SCK/T0/INT0) (io), 8 VCC (power)

## ATtiny26-16MC
designator U?
8-Bit AVR Microcontroller with 2K Bytes of Flash Memory; Published: 26-May-2004; LatestRevisionDate: 13-Apr-2006; LatestRevisionNote: IPC-7351 Footprint Added.; DatasheetVersion: 1477C-AVR-09/02; PackageVersion: revB, Aug-2001; PackageReference: 32M1-A; Publisher: Altium Limited; PackageDescription: 32-Pin Quad Flat No-Lead 0.5 mm Pitch; Code_JEDEC: MO-220-VHHD-2; ComponentLink1Description: Manufacturer Link; ComponentLink1URL: http://www.atmel.com; ComponentLink2Description: Datasheet; ComponentLink2URL: http://www.atmel.com/dyn/resources/prod_documents/doc1477.pdf
footprint 32M1-A_N (QFN, 32-Leads, Body 5x5mm, Pitch 0.5mm, IPC Medium Density)
footprint 32M1-A_L (QFN, 32-Leads, Body 5x5mm, Pitch 0.5mm, IPC High Density)
footprint 32M1-A_M (QFN, 32-Leads, Body 5x5mm, Pitch 0.5mm, IPC Low Density)
pins: 1 NC, 2 PB3 (OC1B) (io), 3 NC, 4 VCC (power), 5 GND (power), 6 NC, 7 PB4 (ADC7/XTAL1) (io), 8 PB5 (ADC8/XTAL2) (io), 9 NC, 10 PB6 (ADC9/INT0/T0) (io), 11 PB7 (ADC10/~{RESET}) (io), 12 NC, 13 PA7 (ADC6/AIN1) (io), 14 PA6 (ADC5/AIN0) (io), 15 PA5 (ADC4) (io), 16 NC, 17 PA4 (ADC3) (io), 18 AVCC (power), 19 NC, 20 NC, 21 GND (power), 22 PA3 (AREF) (io), 23 PA2 (ADC2) (io), 24 NC, 25 PA1 (ADC1) (io), 26 PA0 (ADC0) (io), 27 NC, 28 NC, 29 NC, 30 PB0 (MOSI/DI/SDA/OC1A) (io), 31 PB1 (MISO/DO/OC1A) (io), 32 PB2 (SCK/SCL/OC1B) (io), 33 Thermal Pad (power)

## ATtiny26-16MI
designator U?
8-Bit AVR Microcontroller with 2K Bytes of Flash Memory; Published: 26-May-2004; LatestRevisionDate: 13-Apr-2006; LatestRevisionNote: IPC-7351 Footprint Added.; DatasheetVersion: 1477C-AVR-09/02; PackageVersion: revB, Aug-2001; PackageReference: 32M1-A; Publisher: Altium Limited; PackageDescription: 32-Pin Quad Flat No-Lead 0.5 mm Pitch; Code_JEDEC: MO-220-VHHD-2; ComponentLink1Description: Manufacturer Link; ComponentLink1URL: http://www.atmel.com; ComponentLink2Description: Datasheet; ComponentLink2URL: http://www.atmel.com/dyn/resources/prod_documents/doc1477.pdf
footprint 32M1-A_N (QFN, 32-Leads, Body 5x5mm, Pitch 0.5mm, IPC Medium Density)
footprint 32M1-A_L (QFN, 32-Leads, Body 5x5mm, Pitch 0.5mm, IPC High Density)
footprint 32M1-A_M (QFN, 32-Leads, Body 5x5mm, Pitch 0.5mm, IPC Low Density)
pins: 1 NC, 2 PB3 (OC1B) (io), 3 NC, 4 VCC (power), 5 GND (power), 6 NC, 7 PB4 (ADC7/XTAL1) (io), 8 PB5 (ADC8/XTAL2) (io), 9 NC, 10 PB6 (ADC9/INT0/T0) (io), 11 PB7 (ADC10/~{RESET}) (io), 12 NC, 13 PA7 (ADC6/AIN1) (io), 14 PA6 (ADC5/AIN0) (io), 15 PA5 (ADC4) (io), 16 NC, 17 PA4 (ADC3) (io), 18 AVCC (power), 19 NC, 20 NC, 21 GND (power), 22 PA3 (AREF) (io), 23 PA2 (ADC2) (io), 24 NC, 25 PA1 (ADC1) (io), 26 PA0 (ADC0) (io), 27 NC, 28 NC, 29 NC, 30 PB0 (MOSI/DI/SDA/OC1A) (io), 31 PB1 (MISO/DO/OC1A) (io), 32 PB2 (SCK/SCL/OC1B) (io), 33 Thermal Pad (power)

## ATtiny26-16PC
designator U?
8-Bit AVR Microcontroller with 2K Bytes of Flash Memory; Published: 17-Sep-2003; LatestRevisionDate: 04-Mar-2005; LatestRevisionNote: Stylized 3D Model Added.; DatasheetVersion: 1477C-AVR-09/02; PackageVersion: Aug-1999; PackageReference: 20P3; Publisher: Altium Limited; PackageDescription: DIP; 20 Leads; Row Spacing 7.62 mm; Pitch 2.54 mm; Code_JEDEC: MS-001-AD; ComponentLink1Description: Manufacturer Link; ComponentLink1URL: http://www.atmel.com; ComponentLink2Description: Datasheet; ComponentLink2URL: http://www.atmel.com/dyn/resources/prod_documents/doc1477.pdf
footprint 20P3 (DIP; 20 Leads; Row Spacing 7.62 mm; Pitch 2.54 mm)
3D model 20P3 (DIP; 20 Leads; Row Spacing 7.62 mm; Pitch 2.54 mm)
pins: 1 PB0 (MOSI/DI/SDA/OC1A) (io), 2 PB1 (MISO/DO/OC1A) (io), 3 PB2 (SCK/SCL/OC1B) (io), 4 PB3 (OC1B) (io), 5 VCC (power), 6 GND (power), 7 PB4 (ADC7/XTAL1) (io), 8 PB5 (ADC8/XTAL2) (io), 9 PB6 (ADC9/INT0/T0) (io), 10 PB7 (ADC10/~{RESET}) (io), 11 PA7 (ADC6/AIN1) (io), 12 PA6 (ADC5/AIN0) (io), 13 PA5 (ADC4) (io), 14 PA4 (ADC3) (io), 15 AVCC (power), 16 GND (power), 17 PA3 (AREF) (io), 18 PA2 (ADC2) (io), 19 PA1 (ADC1) (io), 20 PA0 (ADC0) (io)

## ATtiny26-16PI
designator U?
8-Bit AVR Microcontroller with 2K Bytes of Flash Memory; Published: 17-Sep-2003; LatestRevisionDate: 04-Mar-2005; LatestRevisionNote: Stylized 3D Model Added.; DatasheetVersion: 1477C-AVR-09/02; PackageVersion: Aug-1999; PackageReference: 20P3; Publisher: Altium Limited; PackageDescription: DIP; 20 Leads; Row Spacing 7.62 mm; Pitch 2.54 mm; Code_JEDEC: MS-001-AD; ComponentLink1Description: Manufacturer Link; ComponentLink1URL: http://www.atmel.com; ComponentLink2Description: Datasheet; ComponentLink2URL: http://www.atmel.com/dyn/resources/prod_documents/doc1477.pdf
footprint 20P3 (DIP; 20 Leads; Row Spacing 7.62 mm; Pitch 2.54 mm)
3D model 20P3 (DIP; 20 Leads; Row Spacing 7.62 mm; Pitch 2.54 mm)
pins: 1 PB0 (MOSI/DI/SDA/OC1A) (io), 2 PB1 (MISO/DO/OC1A) (io), 3 PB2 (SCK/SCL/OC1B) (io), 4 PB3 (OC1B) (io), 5 VCC (power), 6 GND (power), 7 PB4 (ADC7/XTAL1) (io), 8 PB5 (ADC8/XTAL2) (io), 9 PB6 (ADC9/INT0/T0) (io), 10 PB7 (ADC10/~{RESET}) (io), 11 PA7 (ADC6/AIN1) (io), 12 PA6 (ADC5/AIN0) (io), 13 PA5 (ADC4) (io), 14 PA4 (ADC3) (io), 15 AVCC (power), 16 GND (power), 17 PA3 (AREF) (io), 18 PA2 (ADC2) (io), 19 PA1 (ADC1) (io), 20 PA0 (ADC0) (io)

## ATtiny26-16SC
designator U?
8-Bit AVR Microcontroller with 2K Bytes of Flash Memory; Published: 17-Sep-2003; LatestRevisionDate: 13-Apr-2006; LatestRevisionNote: IPC-7351 Footprint Added.; DatasheetVersion: 1477C-AVR-09/02; PackageVersion: Aug-1999; PackageReference: 20S; Publisher: Altium Limited; PackageDescription: 20-Pin Small Outline Integrated Circuit 1.27 mm Pitch; ComponentLink1Description: Manufacturer Link; ComponentLink1URL: http://www.atmel.com; ComponentLink2Description: Datasheet; ComponentLink2URL: http://www.atmel.com/dyn/resources/prod_documents/doc1477.pdf
footprint 20S_N (SOIC, 20-Leads, Body 12.8x7.5mm, Pitch 1.27mm, IPC Medium Density)
footprint 20S_L (SOIC, 20-Leads, Body 12.8x7.5mm, Pitch 1.27mm, IPC High Density)
footprint 20S_M (SOIC, 20-Leads, Body 12.8x7.5mm, Pitch 1.27mm, IPC Low Density)
3D model 20S (20-Pin Small Outline Integrated Circuit 1.27 mm Pitch)
pins: 1 PB0 (MOSI/DI/SDA/OC1A) (io), 2 PB1 (MISO/DO/OC1A) (io), 3 PB2 (SCK/SCL/OC1B) (io), 4 PB3 (OC1B) (io), 5 VCC (power), 6 GND (power), 7 PB4 (ADC7/XTAL1) (io), 8 PB5 (ADC8/XTAL2) (io), 9 PB6 (ADC9/INT0/T0) (io), 10 PB7 (ADC10/~{RESET}) (io), 11 PA7 (ADC6/AIN1) (io), 12 PA6 (ADC5/AIN0) (io), 13 PA5 (ADC4) (io), 14 PA4 (ADC3) (io), 15 AVCC (power), 16 GND (power), 17 PA3 (AREF) (io), 18 PA2 (ADC2) (io), 19 PA1 (ADC1) (io), 20 PA0 (ADC0) (io)

## ATtiny26-16SI
designator U?
8-Bit AVR Microcontroller with 2K Bytes of Flash Memory; Published: 17-Sep-2003; LatestRevisionDate: 13-Apr-2006; LatestRevisionNote: IPC-7351 Footprint Added.; DatasheetVersion: 1477C-AVR-09/02; PackageVersion: Aug-1999; PackageReference: 20S; Publisher: Altium Limited; PackageDescription: 20-Pin Small Outline Integrated Circuit 1.27 mm Pitch; ComponentLink1Description: Manufacturer Link; ComponentLink1URL: http://www.atmel.com; ComponentLink2Description: Datasheet; ComponentLink2URL: http://www.atmel.com/dyn/resources/prod_documents/doc1477.pdf
footprint 20S_N (SOIC, 20-Leads, Body 12.8x7.5mm, Pitch 1.27mm, IPC Medium Density)
footprint 20S_L (SOIC, 20-Leads, Body 12.8x7.5mm, Pitch 1.27mm, IPC High Density)
footprint 20S_M (SOIC, 20-Leads, Body 12.8x7.5mm, Pitch 1.27mm, IPC Low Density)
3D model 20S (20-Pin Small Outline Integrated Circuit 1.27 mm Pitch)
pins: 1 PB0 (MOSI/DI/SDA/OC1A) (io), 2 PB1 (MISO/DO/OC1A) (io), 3 PB2 (SCK/SCL/OC1B) (io), 4 PB3 (OC1B) (io), 5 VCC (power), 6 GND (power), 7 PB4 (ADC7/XTAL1) (io), 8 PB5 (ADC8/XTAL2) (io), 9 PB6 (ADC9/INT0/T0) (io), 10 PB7 (ADC10/~{RESET}) (io), 11 PA7 (ADC6/AIN1) (io), 12 PA6 (ADC5/AIN0) (io), 13 PA5 (ADC4) (io), 14 PA4 (ADC3) (io), 15 AVCC (power), 16 GND (power), 17 PA3 (AREF) (io), 18 PA2 (ADC2) (io), 19 PA1 (ADC1) (io), 20 PA0 (ADC0) (io)

## ATtiny26L-8MC
designator U?
8-Bit AVR Microcontroller with 2K Bytes of Flash Memory; Published: 26-May-2004; LatestRevisionDate: 13-Apr-2006; LatestRevisionNote: IPC-7351 Footprint Added.; DatasheetVersion: 1477C-AVR-09/02; PackageVersion: revB, Aug-2001; PackageReference: 32M1-A; Publisher: Altium Limited; PackageDescription: 32-Pin Quad Flat No-Lead 0.5 mm Pitch; Code_JEDEC: MO-220-VHHD-2; ComponentLink1Description: Manufacturer Link; ComponentLink1URL: http://www.atmel.com; ComponentLink2Description: Datasheet; ComponentLink2URL: http://www.atmel.com/dyn/resources/prod_documents/doc1477.pdf
footprint 32M1-A_N (QFN, 32-Leads, Body 5x5mm, Pitch 0.5mm, IPC Medium Density)
footprint 32M1-A_L (QFN, 32-Leads, Body 5x5mm, Pitch 0.5mm, IPC High Density)
footprint 32M1-A_M (QFN, 32-Leads, Body 5x5mm, Pitch 0.5mm, IPC Low Density)
pins: 1 NC, 2 PB3 (OC1B) (io), 3 NC, 4 VCC (power), 5 GND (power), 6 NC, 7 PB4 (ADC7/XTAL1) (io), 8 PB5 (ADC8/XTAL2) (io), 9 NC, 10 PB6 (ADC9/INT0/T0) (io), 11 PB7 (ADC10/~{RESET}) (io), 12 NC, 13 PA7 (ADC6/AIN1) (io), 14 PA6 (ADC5/AIN0) (io), 15 PA5 (ADC4) (io), 16 NC, 17 PA4 (ADC3) (io), 18 AVCC (power), 19 NC, 20 NC, 21 GND (power), 22 PA3 (AREF) (io), 23 PA2 (ADC2) (io), 24 NC, 25 PA1 (ADC1) (io), 26 PA0 (ADC0) (io), 27 NC, 28 NC, 29 NC, 30 PB0 (MOSI/DI/SDA/OC1A) (io), 31 PB1 (MISO/DO/OC1A) (io), 32 PB2 (SCK/SCL/OC1B) (io), 33 Thermal Pad (power)

## ATtiny26L-8MI
designator U?
8-Bit AVR Microcontroller with 2K Bytes of Flash Memory; Published: 26-May-2004; LatestRevisionDate: 13-Apr-2006; LatestRevisionNote: IPC-7351 Footprint Added.; DatasheetVersion: 1477C-AVR-09/02; PackageVersion: revB, Aug-2001; PackageReference: 32M1-A; Publisher: Altium Limited; PackageDescription: 32-Pin Quad Flat No-Lead 0.5 mm Pitch; Code_JEDEC: MO-220-VHHD-2; ComponentLink1Description: Manufacturer Link; ComponentLink1URL: http://www.atmel.com; ComponentLink2Description: Datasheet; ComponentLink2URL: http://www.atmel.com/dyn/resources/prod_documents/doc1477.pdf
footprint 32M1-A_N (QFN, 32-Leads, Body 5x5mm, Pitch 0.5mm, IPC Medium Density)
footprint 32M1-A_L (QFN, 32-Leads, Body 5x5mm, Pitch 0.5mm, IPC High Density)
footprint 32M1-A_M (QFN, 32-Leads, Body 5x5mm, Pitch 0.5mm, IPC Low Density)
pins: 1 NC, 2 PB3 (OC1B) (io), 3 NC, 4 VCC (power), 5 GND (power), 6 NC, 7 PB4 (ADC7/XTAL1) (io), 8 PB5 (ADC8/XTAL2) (io), 9 NC, 10 PB6 (ADC9/INT0/T0) (io), 11 PB7 (ADC10/~{RESET}) (io), 12 NC, 13 PA7 (ADC6/AIN1) (io), 14 PA6 (ADC5/AIN0) (io), 15 PA5 (ADC4) (io), 16 NC, 17 PA4 (ADC3) (io), 18 AVCC (power), 19 NC, 20 NC, 21 GND (power), 22 PA3 (AREF) (io), 23 PA2 (ADC2) (io), 24 NC, 25 PA1 (ADC1) (io), 26 PA0 (ADC0) (io), 27 NC, 28 NC, 29 NC, 30 PB0 (MOSI/DI/SDA/OC1A) (io), 31 PB1 (MISO/DO/OC1A) (io), 32 PB2 (SCK/SCL/OC1B) (io), 33 Thermal Pad (power)

## ATtiny26L-8PC
designator U?
8-Bit AVR Microcontroller with 2K Bytes of Flash Memory; Published: 17-Sep-2003; LatestRevisionDate: 04-Mar-2005; LatestRevisionNote: Stylized 3D Model Added.; DatasheetVersion: 1477C-AVR-09/02; PackageVersion: Aug-1999; PackageReference: 20P3; Publisher: Altium Limited; PackageDescription: DIP; 20 Leads; Row Spacing 7.62 mm; Pitch 2.54 mm; Code_JEDEC: MS-001-AD; ComponentLink1Description: Manufacturer Link; ComponentLink1URL: http://www.atmel.com; ComponentLink2Description: Datasheet; ComponentLink2URL: http://www.atmel.com/dyn/resources/prod_documents/doc1477.pdf
footprint 20P3 (DIP; 20 Leads; Row Spacing 7.62 mm; Pitch 2.54 mm)
3D model 20P3 (DIP; 20 Leads; Row Spacing 7.62 mm; Pitch 2.54 mm)
pins: 1 PB0 (MOSI/DI/SDA/OC1A) (io), 2 PB1 (MISO/DO/OC1A) (io), 3 PB2 (SCK/SCL/OC1B) (io), 4 PB3 (OC1B) (io), 5 VCC (power), 6 GND (power), 7 PB4 (ADC7/XTAL1) (io), 8 PB5 (ADC8/XTAL2) (io), 9 PB6 (ADC9/INT0/T0) (io), 10 PB7 (ADC10/~{RESET}) (io), 11 PA7 (ADC6/AIN1) (io), 12 PA6 (ADC5/AIN0) (io), 13 PA5 (ADC4) (io), 14 PA4 (ADC3) (io), 15 AVCC (power), 16 GND (power), 17 PA3 (AREF) (io), 18 PA2 (ADC2) (io), 19 PA1 (ADC1) (io), 20 PA0 (ADC0) (io)

## ATtiny26L-8PI
designator U?
8-Bit AVR Microcontroller with 2K Bytes of Flash Memory; Published: 17-Sep-2003; LatestRevisionDate: 04-Mar-2005; LatestRevisionNote: Stylized 3D Model Added.; DatasheetVersion: 1477C-AVR-09/02; PackageVersion: Aug-1999; PackageReference: 20P3; Publisher: Altium Limited; PackageDescription: DIP; 20 Leads; Row Spacing 7.62 mm; Pitch 2.54 mm; Code_JEDEC: MS-001-AD; ComponentLink1Description: Manufacturer Link; ComponentLink1URL: http://www.atmel.com; ComponentLink2Description: Datasheet; ComponentLink2URL: http://www.atmel.com/dyn/resources/prod_documents/doc1477.pdf
footprint 20P3 (DIP; 20 Leads; Row Spacing 7.62 mm; Pitch 2.54 mm)
3D model 20P3 (DIP; 20 Leads; Row Spacing 7.62 mm; Pitch 2.54 mm)
pins: 1 PB0 (MOSI/DI/SDA/OC1A) (io), 2 PB1 (MISO/DO/OC1A) (io), 3 PB2 (SCK/SCL/OC1B) (io), 4 PB3 (OC1B) (io), 5 VCC (power), 6 GND (power), 7 PB4 (ADC7/XTAL1) (io), 8 PB5 (ADC8/XTAL2) (io), 9 PB6 (ADC9/INT0/T0) (io), 10 PB7 (ADC10/~{RESET}) (io), 11 PA7 (ADC6/AIN1) (io), 12 PA6 (ADC5/AIN0) (io), 13 PA5 (ADC4) (io), 14 PA4 (ADC3) (io), 15 AVCC (power), 16 GND (power), 17 PA3 (AREF) (io), 18 PA2 (ADC2) (io), 19 PA1 (ADC1) (io), 20 PA0 (ADC0) (io)

## ATtiny26L-8SC
designator U?
8-Bit AVR Microcontroller with 2K Bytes of Flash Memory; Published: 17-Sep-2003; LatestRevisionDate: 13-Apr-2006; LatestRevisionNote: IPC-7351 Footprint Added.; DatasheetVersion: 1477C-AVR-09/02; PackageVersion: Aug-1999; PackageReference: 20S; Publisher: Altium Limited; PackageDescription: 20-Pin Small Outline Integrated Circuit 1.27 mm Pitch; ComponentLink1Description: Manufacturer Link; ComponentLink1URL: http://www.atmel.com; ComponentLink2Description: Datasheet; ComponentLink2URL: http://www.atmel.com/dyn/resources/prod_documents/doc1477.pdf
footprint 20S_N (SOIC, 20-Leads, Body 12.8x7.5mm, Pitch 1.27mm, IPC Medium Density)
footprint 20S_L (SOIC, 20-Leads, Body 12.8x7.5mm, Pitch 1.27mm, IPC High Density)
footprint 20S_M (SOIC, 20-Leads, Body 12.8x7.5mm, Pitch 1.27mm, IPC Low Density)
3D model 20S (20-Pin Small Outline Integrated Circuit 1.27 mm Pitch)
pins: 1 PB0 (MOSI/DI/SDA/OC1A) (io), 2 PB1 (MISO/DO/OC1A) (io), 3 PB2 (SCK/SCL/OC1B) (io), 4 PB3 (OC1B) (io), 5 VCC (power), 6 GND (power), 7 PB4 (ADC7/XTAL1) (io), 8 PB5 (ADC8/XTAL2) (io), 9 PB6 (ADC9/INT0/T0) (io), 10 PB7 (ADC10/~{RESET}) (io), 11 PA7 (ADC6/AIN1) (io), 12 PA6 (ADC5/AIN0) (io), 13 PA5 (ADC4) (io), 14 PA4 (ADC3) (io), 15 AVCC (power), 16 GND (power), 17 PA3 (AREF) (io), 18 PA2 (ADC2) (io), 19 PA1 (ADC1) (io), 20 PA0 (ADC0) (io)

## ATtiny26L-8SI
designator U?
8-Bit AVR Microcontroller with 2K Bytes of Flash Memory; Published: 17-Sep-2003; LatestRevisionDate: 13-Apr-2006; LatestRevisionNote: IPC-7351 Footprint Added.; DatasheetVersion: 1477C-AVR-09/02; PackageVersion: Aug-1999; PackageReference: 20S; Publisher: Altium Limited; PackageDescription: 20-Pin Small Outline Integrated Circuit 1.27 mm Pitch; ComponentLink1Description: Manufacturer Link; ComponentLink1URL: http://www.atmel.com; ComponentLink2Description: Datasheet; ComponentLink2URL: http://www.atmel.com/dyn/resources/prod_documents/doc1477.pdf
footprint 20S_N (SOIC, 20-Leads, Body 12.8x7.5mm, Pitch 1.27mm, IPC Medium Density)
footprint 20S_L (SOIC, 20-Leads, Body 12.8x7.5mm, Pitch 1.27mm, IPC High Density)
footprint 20S_M (SOIC, 20-Leads, Body 12.8x7.5mm, Pitch 1.27mm, IPC Low Density)
3D model 20S (20-Pin Small Outline Integrated Circuit 1.27 mm Pitch)
pins: 1 PB0 (MOSI/DI/SDA/OC1A) (io), 2 PB1 (MISO/DO/OC1A) (io), 3 PB2 (SCK/SCL/OC1B) (io), 4 PB3 (OC1B) (io), 5 VCC (power), 6 GND (power), 7 PB4 (ADC7/XTAL1) (io), 8 PB5 (ADC8/XTAL2) (io), 9 PB6 (ADC9/INT0/T0) (io), 10 PB7 (ADC10/~{RESET}) (io), 11 PA7 (ADC6/AIN1) (io), 12 PA6 (ADC5/AIN0) (io), 13 PA5 (ADC4) (io), 14 PA4 (ADC3) (io), 15 AVCC (power), 16 GND (power), 17 PA3 (AREF) (io), 18 PA2 (ADC2) (io), 19 PA1 (ADC1) (io), 20 PA0 (ADC0) (io)

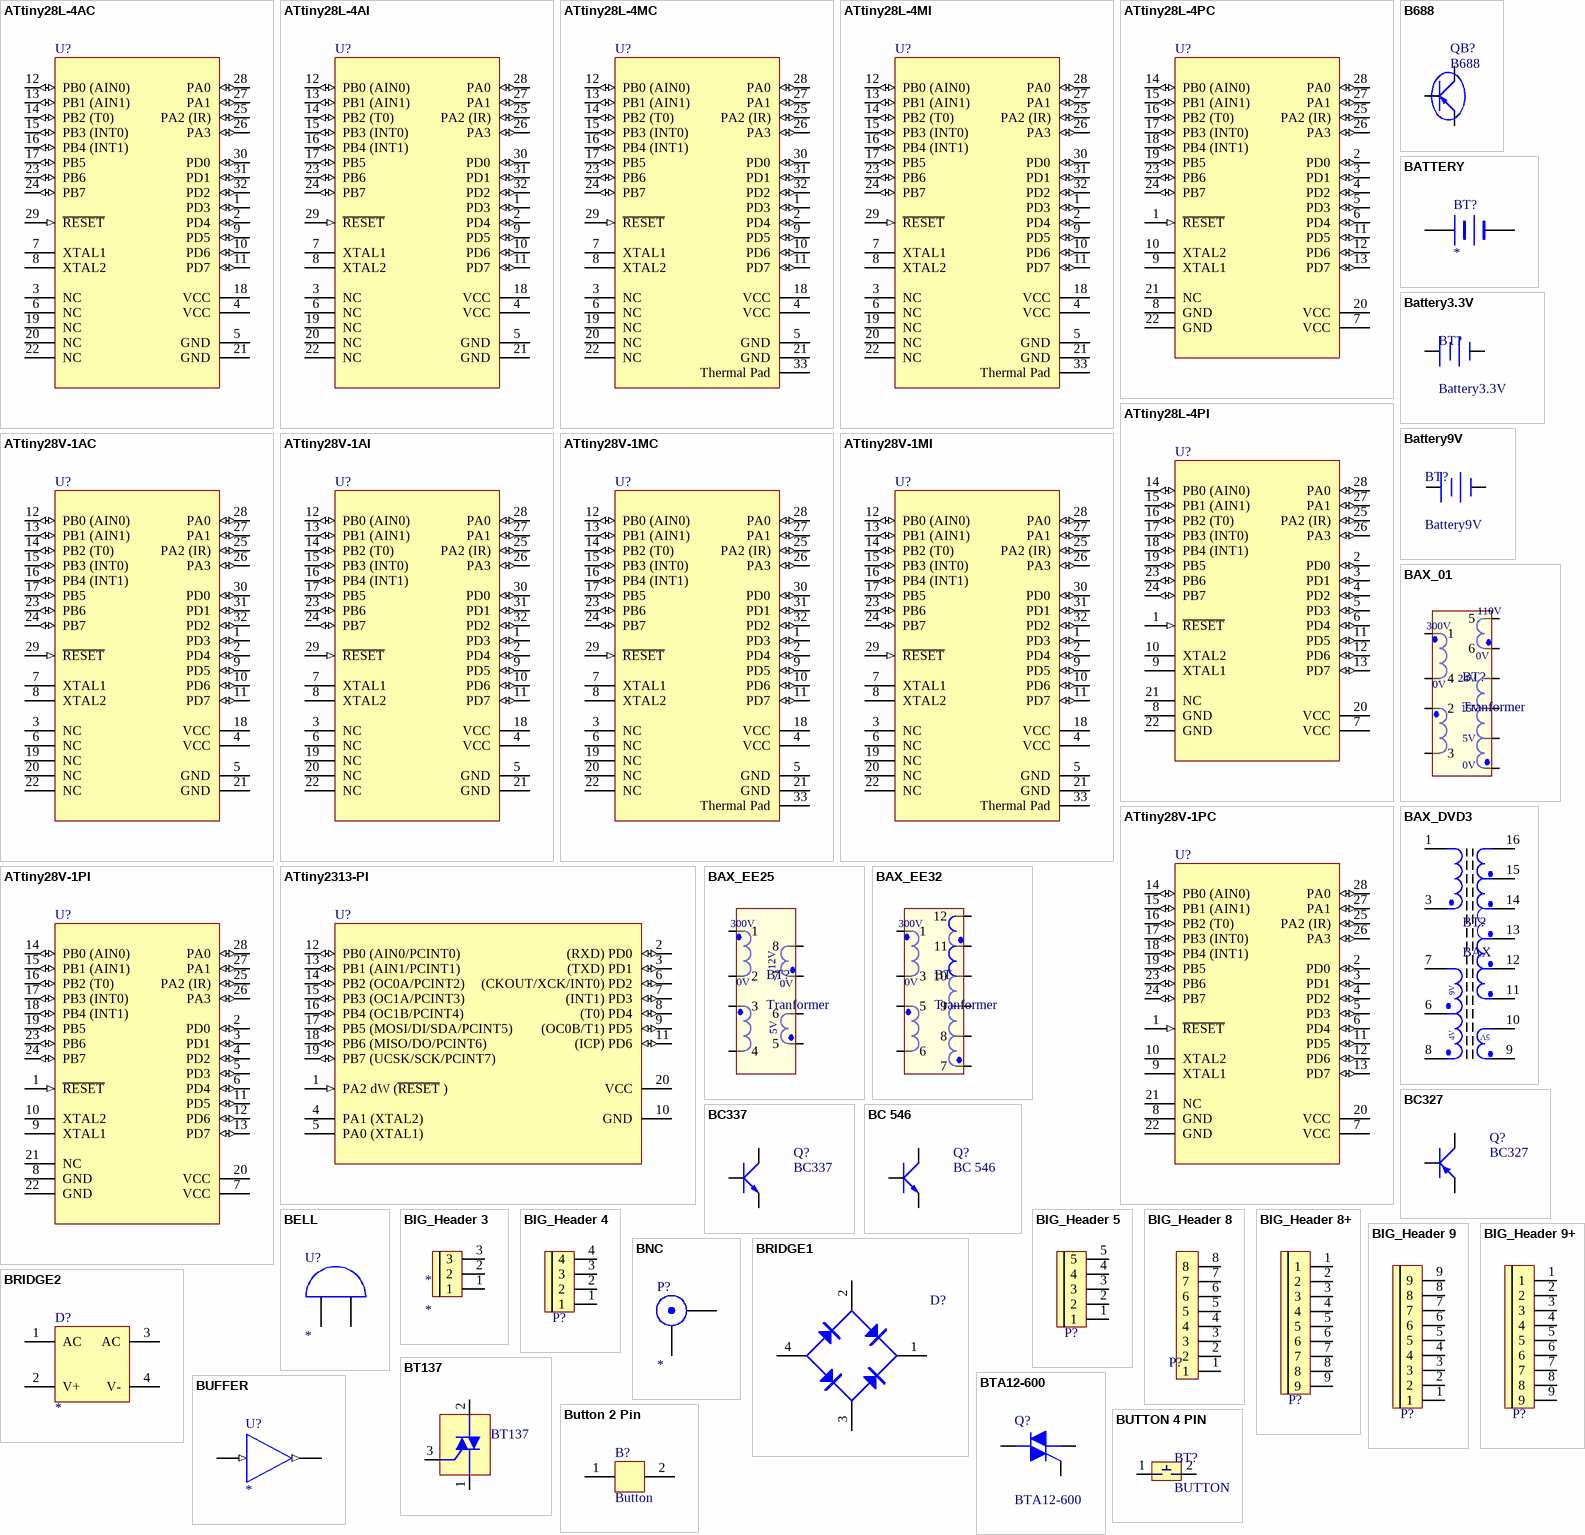
[diagram p20: symbols ATtiny28L-4AC to BUTTON 4 PIN]

## ATtiny28L-4AC
designator U?
8-Bit AVR Microcontroller with 2K Bytes of Flash Memory; Published: 17-Sep-2003; LatestRevisionDate: 13-Apr-2006; LatestRevisionNote: IPC-7351 Footprint Added.; DatasheetVersion: 1062E-10/01; PackageVersion: revB, Oct-2001; PackageReference: 32A; Publisher: Altium Limited; PackageDescription: 32-Pin Thin Quad Flat Pack 0.8 mm Pitch; Code_JEDEC: MS-026-ABA; ComponentLink1Description: Manufacturer Link; ComponentLink1URL: http://www.atmel.com; ComponentLink2Description: Datasheet; ComponentLink2URL: http://www.atmel.com/dyn/resources/prod_documents/doc1062.pdf
footprint 32A_N (Thin QFP, 32-Leads, Body 7x7mm, Pitch 0.8mm, IPC Medium Density)
footprint 32A_L (Thin QFP, 32-Leads, Body 7x7mm, Pitch 0.8mm, IPC High Density)
footprint 32A_M (Thin QFP, 32-Leads, Body 7x7mm, Pitch 0.8mm, IPC Low Density)
3D model ATTINY28L-32A (32-Pin Thin Quad Flat Pack 0.8 mm Pitch)
pins: 1 PD3 (io), 2 PD4 (io), 3 NC, 4 VCC (power), 5 GND (power), 6 NC, 7 XTAL1, 8 XTAL2, 9 PD5 (io), 10 PD6 (io), 11 PD7 (io), 12 PB0 (AIN0) (io), 13 PB1 (AIN1) (io), 14 PB2 (T0) (io), 15 PB3 (INT0) (io), 16 PB4 (INT1) (io), 17 PB5 (io), 18 VCC (power), 19 NC, 20 NC, 21 GND (power), 22 NC, 23 PB6 (io), 24 PB7 (io), 25 PA2 (IR) (io), 26 PA3 (io), 27 PA1 (io), 28 PA0 (io), 29 ~{RESET} (in), 30 PD0 (io), 31 PD1 (io), 32 PD2 (io)

## ATtiny28L-4AI
designator U?
8-Bit AVR Microcontroller with 2K Bytes of Flash Memory; Published: 17-Sep-2003; LatestRevisionDate: 13-Apr-2006; LatestRevisionNote: IPC-7351 Footprint Added.; DatasheetVersion: 1062E-10/01; PackageVersion: revB, Oct-2001; PackageReference: 32A; Publisher: Altium Limited; PackageDescription: 32-Pin Thin Quad Flat Pack 0.8 mm Pitch; Code_JEDEC: MS-026-ABA; ComponentLink1Description: Manufacturer Link; ComponentLink1URL: http://www.atmel.com; ComponentLink2Description: Datasheet; ComponentLink2URL: http://www.atmel.com/dyn/resources/prod_documents/doc1062.pdf
footprint 32A_N (Thin QFP, 32-Leads, Body 7x7mm, Pitch 0.8mm, IPC Medium Density)
footprint 32A_L (Thin QFP, 32-Leads, Body 7x7mm, Pitch 0.8mm, IPC High Density)
footprint 32A_M (Thin QFP, 32-Leads, Body 7x7mm, Pitch 0.8mm, IPC Low Density)
3D model ATTINY28L-32A (32-Pin Thin Quad Flat Pack 0.8 mm Pitch)
pins: 1 PD3 (io), 2 PD4 (io), 3 NC, 4 VCC (power), 5 GND (power), 6 NC, 7 XTAL1, 8 XTAL2, 9 PD5 (io), 10 PD6 (io), 11 PD7 (io), 12 PB0 (AIN0) (io), 13 PB1 (AIN1) (io), 14 PB2 (T0) (io), 15 PB3 (INT0) (io), 16 PB4 (INT1) (io), 17 PB5 (io), 18 VCC (power), 19 NC, 20 NC, 21 GND (power), 22 NC, 23 PB6 (io), 24 PB7 (io), 25 PA2 (IR) (io), 26 PA3 (io), 27 PA1 (io), 28 PA0 (io), 29 ~{RESET} (in), 30 PD0 (io), 31 PD1 (io), 32 PD2 (io)